# Altium integrated library NSC Switcher.IntLib: 916 symbols (part 3 of 23)
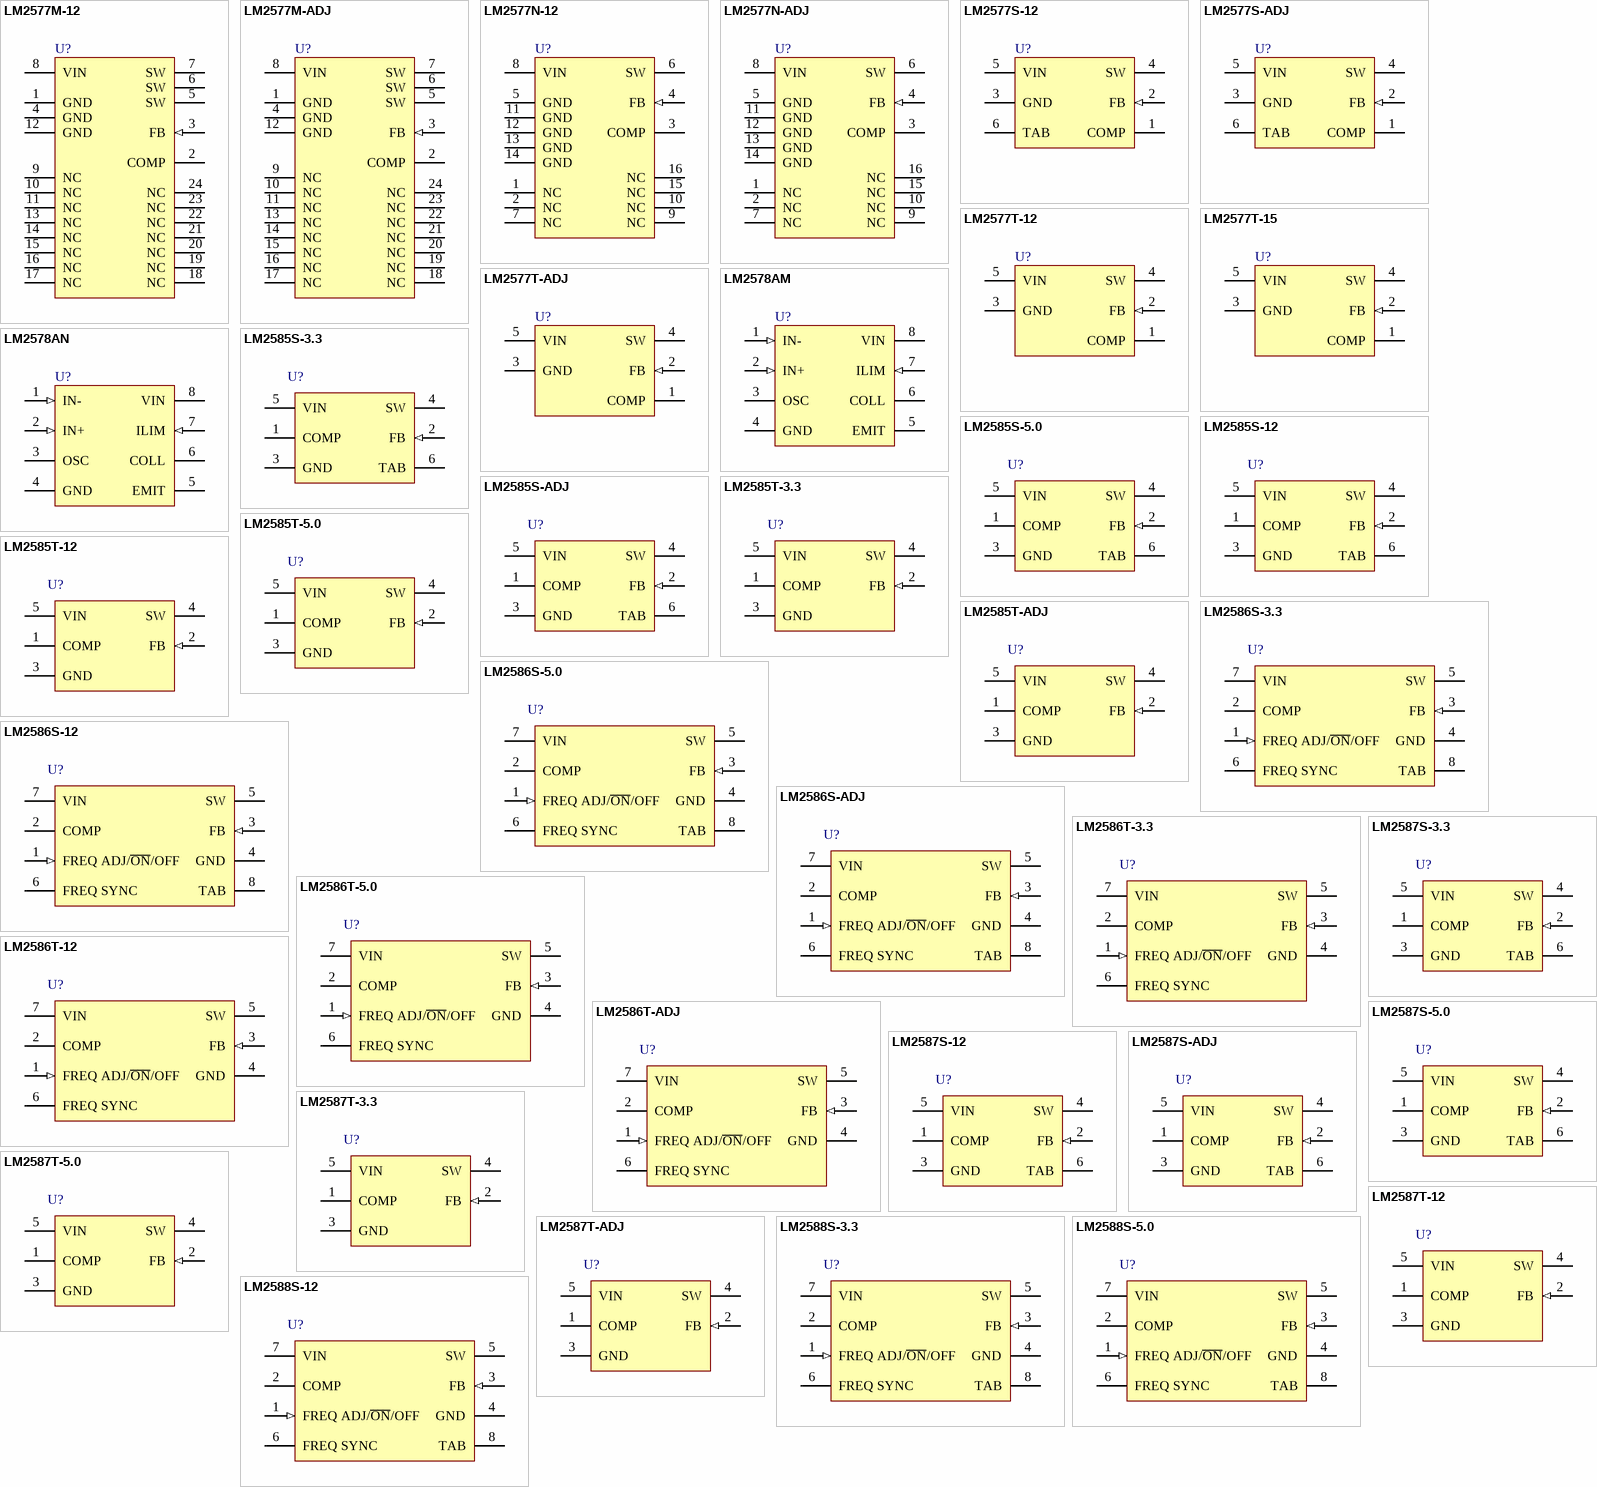
[diagram p30: symbols LM2577M-12 to LM2588S-12]

## LM2577S-ADJ
designator U?
SIMPLE SWITCHER; Step-Up Voltage Regulator; PartNumber: LM2577S-ADJ; Manufacturer: National Semiconductor; PackageTopMarking: NSUZXYTT*LM2577S*-ADJ P+; PowerWise: N; Published: 4-Dec-2008; DatasheetVersion: Apr-2005; PackageVersion: revD, Apr-2005; PackageReference: TS5B; Publisher: Altium Limited; PackageDescription: TO-263, Molded, .400 x .390 x .180in, 5 Lead, .067in Pitch, Surface Mount; CompType: Switcher; RoHS: O; PinCount: 5; DigiKeyPartNumber: LM2577S-ADJ-ND; Code_JEDEC: MO-169-AB; ComponentLink1Description: LM2577 Datasheet; ComponentLink1URL: http://www.national.com/ds/LM/LM2577.pdf; ComponentLink2Description: LM2577 Web Page; ComponentLink2URL: http://www.national.com/pf/LM/LM2577.html; ComponentLink3Description: TS5B Package Page; ComponentLink3URL: http://www.national.com/packaging/folders/ts5b.html
footprint TS5B_N (D2-PAK, 6-Leads, Body 8.6x10.2mm, Pitch 1.7mm, Lead Span 14.1mm, IPC Medium Density)
footprint TS5B_L (D2-PAK, 6-Leads, Body 8.6x10.2mm, Pitch 1.7mm, Lead Span 14.1mm, IPC High Density)
footprint TS5B_M (D2-PAK, 6-Leads, Body 8.6x10.2mm, Pitch 1.7mm, Lead Span 14.1mm, IPC Low Density)
footprint TS5B_M (D2-PAK, 6-Leads, Body 8.6x10.2mm, Pitch 1.7mm, Lead Span 14.1mm, IPC Low Density)
pins: 1 COMP, 2 FB (in), 3 GND (power), 4 SW (power), 5 VIN (power), 6 TAB (power)

## LM2577T-12
designator U?
SIMPLE SWITCHER; Step-Up Voltage Regulator; PartNumber: LM2577T-12; Manufacturer: National Semiconductor; PackageTopMarking: NSUZXYTT*LM2577T-12*P+; PowerWise: N; Published: 4-Dec-2008; DatasheetVersion: Apr-2005; PackageVersion: revJ, Jan-1992; PackageReference: T05A; Publisher: Altium Limited; PackageDescription: TO-220, Molded, 5 Lead, Straight; CompType: Switcher; RoHS: Y; PinCount: 5; DigiKeyPartNumber: LM2577T-12-ND; Code_JEDEC: TO-220-AB; ComponentLink1Description: LM2577 Datasheet; ComponentLink1URL: http://www.national.com/ds/LM/LM2577.pdf; ComponentLink2Description: LM2577 Web Page; ComponentLink2URL: http://www.national.com/pf/LM/LM2577.html; ComponentLink3Description: T05A Package Page; ComponentLink3URL: http://www.national.com/packaging/folders/t05a.html
footprint T05A (TO, Thru-Hole, Vertical, Heatsink Mounted; 5 In-Line Leads; Pitch 1.70 mm)
pins: 1 COMP, 2 FB (in), 3 GND (power), 4 SW (power), 5 VIN (power)

## LM2577T-15
designator U?
SIMPLE SWITCHER; Step-Up Voltage Regulator; PartNumber: LM2577T-15; Manufacturer: National Semiconductor; PackageTopMarking: NSUZXYTT*LM2577T-15*P+; PowerWise: N; Published: 4-Dec-2008; DatasheetVersion: Apr-2005; PackageVersion: revJ, Jan-1992; PackageReference: T05A; Publisher: Altium Limited; PackageDescription: TO-220, Molded, 5 Lead, Straight; CompType: Switcher; RoHS: O; PinCount: 5; DigiKeyPartNumber: LM2577T-15-ND; Code_JEDEC: TO-220-AB; ComponentLink1Description: LM2577 Datasheet; ComponentLink1URL: http://www.national.com/ds/LM/LM2577.pdf; ComponentLink2Description: LM2577 Web Page; ComponentLink2URL: http://www.national.com/pf/LM/LM2577.html; ComponentLink3Description: T05A Package Page; ComponentLink3URL: http://www.national.com/packaging/folders/t05a.html
footprint T05A (TO, Thru-Hole, Vertical, Heatsink Mounted; 5 In-Line Leads; Pitch 1.70 mm)
pins: 1 COMP, 2 FB (in), 3 GND (power), 4 SW (power), 5 VIN (power)

## LM2577T-ADJ
designator U?
SIMPLE SWITCHER; Step-Up Voltage Regulator; PartNumber: LM2577T-ADJ; Manufacturer: National Semiconductor; PackageTopMarking: NSUZXYTT*LM2577T*-ADJ*P+; PowerWise: N; Published: 4-Dec-2008; DatasheetVersion: Apr-2005; PackageVersion: revJ, Jan-1992; PackageReference: T05A; Publisher: Altium Limited; PackageDescription: TO-220, Molded, 5 Lead, Straight; CompType: Switcher; RoHS: O; PinCount: 5; DigiKeyPartNumber: LM2577T-ADJ-ND; Code_JEDEC: TO-220-AB; ComponentLink1Description: LM2577 Datasheet; ComponentLink1URL: http://www.national.com/ds/LM/LM2577.pdf; ComponentLink2Description: LM2577 Web Page; ComponentLink2URL: http://www.national.com/pf/LM/LM2577.html; ComponentLink3Description: T05A Package Page; ComponentLink3URL: http://www.national.com/packaging/folders/t05a.html
footprint T05A (TO, Thru-Hole, Vertical, Heatsink Mounted; 5 In-Line Leads; Pitch 1.70 mm)
pins: 1 COMP, 2 FB (in), 3 GND (power), 4 SW (power), 5 VIN (power)

## LM2578AM
designator U?
Switching Regulator; PartNumber: LM2578AM; Manufacturer: National Semiconductor; CompType: Switcher; PackageTopMarking: NSZXTT*2578*AM; PowerWise: N; Published: 4-Dec-2008; DatasheetVersion: Feb-2005; PackageVersion: revL, Sep-2006; PackageReference: M08A; Publisher: Altium Limited; PackageDescription: SOIC Narrow, 4.9 x 3.9 x 1.45mm, 8 Lead, 1.27mm Pitch; RoHS: O; PinCount: 8; DigiKeyPartNumber: LM2578AM-ND; Code_JEDEC: MS-012-AA; Code_IPC: SOIC127P600-8; ComponentLink1Description: LM2578A Datasheet; ComponentLink1URL: http://www.national.com/ds/LM/LM2578A.pdf; ComponentLink2Description: LM2578A Web Page; ComponentLink2URL: http://www.national.com/pf/LM/LM2578A.html; ComponentLink3Description: M08A Package Page; ComponentLink3URL: http://www.national.com/packaging/folders/m08a.html
footprint M08A_N (SOIC, 8-Leads, Body 4.9x3.9mm, Pitch 1.27mm, IPC Medium Density)
footprint M08A_L (SOIC, 8-Leads, Body 4.9x3.9mm, Pitch 1.27mm, IPC High Density)
footprint M08A_M (SOIC, 8-Leads, Body 4.9x3.9mm, Pitch 1.27mm, IPC Low Density)
pins: 1 IN- (in), 2 IN+ (in), 3 OSC, 4 GND (power), 5 EMIT (oe), 6 COLL (oc), 7 ILIM (in), 8 VIN (power)

## LM2578AN
designator U?
Switching Regulator; PartNumber: LM2578AN; Manufacturer: National Semiconductor; CompType: Switcher; PackageTopMarking: NSUZXYTT*LM2578AN; PowerWise: N; Published: 4-Dec-2008; DatasheetVersion: Feb-2005; PackageVersion: revG, May-2006; PackageReference: N08E; Publisher: Altium Limited; PackageDescription: MDIP, .365 x .250 x .130in, 8 Lead, .100in Pitch; RoHS: O; PinCount: 8; DigiKeyPartNumber: LM2578AN-ND; Code_JEDEC: MS-001-BA; ComponentLink1Description: LM2578A Datasheet; ComponentLink1URL: http://www.national.com/ds/LM/LM2578A.pdf; ComponentLink2Description: LM2578A Web Page; ComponentLink2URL: http://www.national.com/pf/LM/LM2578A.html; ComponentLink3Description: N08E Package Page; ComponentLink3URL: http://www.national.com/packaging/folders/n08e.html
footprint N08E (DIP, 8-Leads, Row Spacing 7.62mm, Pitch 2.54mm, Body 9.91x6.35mm)
pins: 1 IN- (in), 2 IN+ (in), 3 OSC, 4 GND (power), 5 EMIT (oe), 6 COLL (oc), 7 ILIM (in), 8 VIN (power)

## LM2585S-3.3
designator U?
SIMPLE SWITCHER 3-Amp Flyback Regulator; PartNumber: LM2585S-3.3; Manufacturer: National Semiconductor; PackageTopMarking: NSUZXYTT*LM2585S*-3.3 P+; PowerWise: N; Published: 4-Dec-2008; DatasheetVersion: Feb-2007; PackageVersion: revD, Apr-2005; PackageReference: TS5B; Publisher: Altium Limited; PackageDescription: TO-263, Molded, .400 x .390 x .180in, 5 Lead, .067in Pitch, Surface Mount; CompType: Switcher; RoHS: Y; PinCount: 5; DigiKeyPartNumber: LM2585S-3.3-ND; Code_JEDEC: MO-169-AB; ComponentLink1Description: LM2585 Datasheet; ComponentLink1URL: http://www.national.com/ds/LM/LM2585.pdf; ComponentLink2Description: LM2585 Web Page; ComponentLink2URL: http://www.national.com/pf/LM/LM2585.html; ComponentLink3Description: TS5B Package Page; ComponentLink3URL: http://www.national.com/packaging/folders/ts5b.html
footprint TS5B_N (D2-PAK, 6-Leads, Body 8.6x10.2mm, Pitch 1.7mm, Lead Span 14.1mm, IPC Medium Density)
footprint TS5B_L (D2-PAK, 6-Leads, Body 8.6x10.2mm, Pitch 1.7mm, Lead Span 14.1mm, IPC High Density)
footprint TS5B_M (D2-PAK, 6-Leads, Body 8.6x10.2mm, Pitch 1.7mm, Lead Span 14.1mm, IPC Low Density)
footprint TS5B_M (D2-PAK, 6-Leads, Body 8.6x10.2mm, Pitch 1.7mm, Lead Span 14.1mm, IPC Low Density)
pins: 1 COMP, 2 FB (in), 3 GND (power), 4 SW (power), 5 VIN (power), 6 TAB

## LM2585S-5.0
designator U?
SIMPLE SWITCHER 3-Amp Flyback Regulator; PartNumber: LM2585S-5.0; Manufacturer: National Semiconductor; PackageTopMarking: NSUZXYTT*LM2585S*-5.0 P+; PowerWise: N; Published: 4-Dec-2008; DatasheetVersion: Feb-2007; PackageVersion: revD, Apr-2005; PackageReference: TS5B; Publisher: Altium Limited; PackageDescription: TO-263, Molded, .400 x .390 x .180in, 5 Lead, .067in Pitch, Surface Mount; CompType: Switcher; RoHS: Y; PinCount: 5; DigiKeyPartNumber: LM2585S-5.0-ND; Code_JEDEC: MO-169-AB; ComponentLink1Description: LM2585 Datasheet; ComponentLink1URL: http://www.national.com/ds/LM/LM2585.pdf; ComponentLink2Description: LM2585 Web Page; ComponentLink2URL: http://www.national.com/pf/LM/LM2585.html; ComponentLink3Description: TS5B Package Page; ComponentLink3URL: http://www.national.com/packaging/folders/ts5b.html
footprint TS5B_N (D2-PAK, 6-Leads, Body 8.6x10.2mm, Pitch 1.7mm, Lead Span 14.1mm, IPC Medium Density)
footprint TS5B_L (D2-PAK, 6-Leads, Body 8.6x10.2mm, Pitch 1.7mm, Lead Span 14.1mm, IPC High Density)
footprint TS5B_M (D2-PAK, 6-Leads, Body 8.6x10.2mm, Pitch 1.7mm, Lead Span 14.1mm, IPC Low Density)
footprint TS5B_M (D2-PAK, 6-Leads, Body 8.6x10.2mm, Pitch 1.7mm, Lead Span 14.1mm, IPC Low Density)
pins: 1 COMP, 2 FB (in), 3 GND (power), 4 SW (power), 5 VIN (power), 6 TAB

## LM2585S-12
designator U?
SIMPLE SWITCHER 3-Amp Flyback Regulator; PartNumber: LM2585S-12; Manufacturer: National Semiconductor; PackageTopMarking: NSUZXYTT*LM2585S*-12 P+; PowerWise: N; Published: 4-Dec-2008; DatasheetVersion: Feb-2007; PackageVersion: revD, Apr-2005; PackageReference: TS5B; Publisher: Altium Limited; PackageDescription: TO-263, Molded, .400 x .390 x .180in, 5 Lead, .067in Pitch, Surface Mount; CompType: Switcher; RoHS: O; PinCount: 5; DigiKeyPartNumber: LM2585S-12-ND; Code_JEDEC: MO-169-AB; ComponentLink1Description: LM2585 Datasheet; ComponentLink1URL: http://www.national.com/ds/LM/LM2585.pdf; ComponentLink2Description: LM2585 Web Page; ComponentLink2URL: http://www.national.com/pf/LM/LM2585.html; ComponentLink3Description: TS5B Package Page; ComponentLink3URL: http://www.national.com/packaging/folders/ts5b.html
footprint TS5B_N (D2-PAK, 6-Leads, Body 8.6x10.2mm, Pitch 1.7mm, Lead Span 14.1mm, IPC Medium Density)
footprint TS5B_L (D2-PAK, 6-Leads, Body 8.6x10.2mm, Pitch 1.7mm, Lead Span 14.1mm, IPC High Density)
footprint TS5B_M (D2-PAK, 6-Leads, Body 8.6x10.2mm, Pitch 1.7mm, Lead Span 14.1mm, IPC Low Density)
footprint TS5B_M (D2-PAK, 6-Leads, Body 8.6x10.2mm, Pitch 1.7mm, Lead Span 14.1mm, IPC Low Density)
pins: 1 COMP, 2 FB (in), 3 GND (power), 4 SW (power), 5 VIN (power), 6 TAB

## LM2585S-ADJ
designator U?
SIMPLE SWITCHER 3-Amp Flyback Regulator; PartNumber: LM2585S-ADJ; Manufacturer: National Semiconductor; PackageTopMarking: NSUZXYTT*LM2585S*-ADJ P+; PowerWise: N; Published: 4-Dec-2008; DatasheetVersion: Feb-2007; PackageVersion: revD, Apr-2005; PackageReference: TS5B; Publisher: Altium Limited; PackageDescription: TO-263, Molded, .400 x .390 x .180in, 5 Lead, .067in Pitch, Surface Mount; CompType: Switcher; RoHS: O; PinCount: 5; DigiKeyPartNumber: LM2585S-ADJ-ND; Code_JEDEC: MO-169-AB; ComponentLink1Description: LM2585 Datasheet; ComponentLink1URL: http://www.national.com/ds/LM/LM2585.pdf; ComponentLink2Description: LM2585 Web Page; ComponentLink2URL: http://www.national.com/pf/LM/LM2585.html; ComponentLink3Description: TS5B Package Page; ComponentLink3URL: http://www.national.com/packaging/folders/ts5b.html
footprint TS5B_N (D2-PAK, 6-Leads, Body 8.6x10.2mm, Pitch 1.7mm, Lead Span 14.1mm, IPC Medium Density)
footprint TS5B_L (D2-PAK, 6-Leads, Body 8.6x10.2mm, Pitch 1.7mm, Lead Span 14.1mm, IPC High Density)
footprint TS5B_M (D2-PAK, 6-Leads, Body 8.6x10.2mm, Pitch 1.7mm, Lead Span 14.1mm, IPC Low Density)
footprint TS5B_M (D2-PAK, 6-Leads, Body 8.6x10.2mm, Pitch 1.7mm, Lead Span 14.1mm, IPC Low Density)
pins: 1 COMP, 2 FB (in), 3 GND (power), 4 SW (power), 5 VIN (power), 6 TAB

## LM2585T-3.3
designator U?
SIMPLE SWITCHER 3-Amp Flyback Regulator; PartNumber: LM2585T-3.3; Manufacturer: National Semiconductor; PackageTopMarking: NSUZXYTT*LM2585T*-3.3 P+; PowerWise: N; Published: 4-Dec-2008; DatasheetVersion: Feb-2007; PackageVersion: revA, Oct-1989; PackageReference: T05D; Publisher: Altium Limited; PackageDescription: TO-220, Molded, Stagger Bend, 5 Lead; CompType: Switcher; RoHS: Y; PinCount: 5; DigiKeyPartNumber: LM2585T-3.3-ND; ComponentLink1Description: LM2585 Datasheet; ComponentLink1URL: http://www.national.com/ds/LM/LM2585.pdf; ComponentLink2Description: LM2585 Web Page; ComponentLink2URL: http://www.national.com/pf/LM/LM2585.html; ComponentLink3Description: T05D Package Page; ComponentLink3URL: http://www.national.com/packaging/folders/t05d.html
footprint T05D (TO, Thru-Hole, Vertical, Heatsink Mounted; 5 Bent Staggered Leads; Pitch 1.7 mm)
pins: 1 COMP, 2 FB (in), 3 GND (power), 4 SW (power), 5 VIN (power)

## LM2585T-5.0
designator U?
SIMPLE SWITCHER 3-Amp Flyback Regulator; PartNumber: LM2585T-5.0; Manufacturer: National Semiconductor; PackageTopMarking: NSUZXYTT*LM2585T*-5.0 P+; PowerWise: N; Published: 4-Dec-2008; DatasheetVersion: Feb-2007; PackageVersion: revA, Oct-1989; PackageReference: T05D; Publisher: Altium Limited; PackageDescription: TO-220, Molded, Stagger Bend, 5 Lead; CompType: Switcher; RoHS: O; PinCount: 5; DigiKeyPartNumber: LM2585T-5.0-ND; ComponentLink1Description: LM2585 Datasheet; ComponentLink1URL: http://www.national.com/ds/LM/LM2585.pdf; ComponentLink2Description: LM2585 Web Page; ComponentLink2URL: http://www.national.com/pf/LM/LM2585.html; ComponentLink3Description: T05D Package Page; ComponentLink3URL: http://www.national.com/packaging/folders/t05d.html
footprint T05D (TO, Thru-Hole, Vertical, Heatsink Mounted; 5 Bent Staggered Leads; Pitch 1.7 mm)
pins: 1 COMP, 2 FB (in), 3 GND (power), 4 SW (power), 5 VIN (power)

## LM2585T-12
designator U?
SIMPLE SWITCHER 3-Amp Flyback Regulator; PartNumber: LM2585T-12; Manufacturer: National Semiconductor; PackageTopMarking: NSUZXYTT*LM2585T*-12 P+; PowerWise: N; Published: 4-Dec-2008; DatasheetVersion: Feb-2007; PackageVersion: revA, Oct-1989; PackageReference: T05D; Publisher: Altium Limited; PackageDescription: TO-220, Molded, Stagger Bend, 5 Lead; CompType: Switcher; RoHS: Y; PinCount: 5; DigiKeyPartNumber: LM2585T-12-ND; ComponentLink1Description: LM2585 Datasheet; ComponentLink1URL: http://www.national.com/ds/LM/LM2585.pdf; ComponentLink2Description: LM2585 Web Page; ComponentLink2URL: http://www.national.com/pf/LM/LM2585.html; ComponentLink3Description: T05D Package Page; ComponentLink3URL: http://www.national.com/packaging/folders/t05d.html
footprint T05D (TO, Thru-Hole, Vertical, Heatsink Mounted; 5 Bent Staggered Leads; Pitch 1.7 mm)
pins: 1 COMP, 2 FB (in), 3 GND (power), 4 SW (power), 5 VIN (power)

## LM2585T-ADJ
designator U?
SIMPLE SWITCHER 3-Amp Flyback Regulator; PartNumber: LM2585T-ADJ; Manufacturer: National Semiconductor; PackageTopMarking: NSUZXYTT*LM2585T*-ADJ P+; PowerWise: N; Published: 4-Dec-2008; DatasheetVersion: Feb-2007; PackageVersion: revA, Oct-1989; PackageReference: T05D; Publisher: Altium Limited; PackageDescription: TO-220, Molded, Stagger Bend, 5 Lead; CompType: Switcher; RoHS: O; PinCount: 5; DigiKeyPartNumber: LM2585T-ADJ-ND; ComponentLink1Description: LM2585 Datasheet; ComponentLink1URL: http://www.national.com/ds/LM/LM2585.pdf; ComponentLink2Description: LM2585 Web Page; ComponentLink2URL: http://www.national.com/pf/LM/LM2585.html; ComponentLink3Description: T05D Package Page; ComponentLink3URL: http://www.national.com/packaging/folders/t05d.html
footprint T05D (TO, Thru-Hole, Vertical, Heatsink Mounted; 5 Bent Staggered Leads; Pitch 1.7 mm)
pins: 1 COMP, 2 FB (in), 3 GND (power), 4 SW (power), 5 VIN (power)

## LM2586S-3.3
designator U?
SIMPLE SWITCHER 3-Amp Flyback Regulator; PartNumber: LM2586S-3.3; Manufacturer: National Semiconductor; PackageTopMarking: NSUZXYTT*LM2586S*-3.3 P+; PowerWise: N; Published: 4-Dec-2008; DatasheetVersion: Jul-2005; PackageVersion: revE, Jul-2003; PackageReference: TS7B; Publisher: Altium Limited; PackageDescription: TO-263, Molded, .400 x .390 x .180in Body, 7 Lead, .050in Pitch, Surface Mount; CompType: Switcher; RoHS: Y; PinCount: 7; DigiKeyPartNumber: LM2586S-3.3-ND; Code_JEDEC: MO-169-AC; ComponentLink1Description: LM2586 Datasheet; ComponentLink1URL: http://www.national.com/ds/LM/LM2586.pdf; ComponentLink2Description: LM2586 Web Page; ComponentLink2URL: http://www.national.com/pf/LM/LM2586.html; ComponentLink3Description: TS7B Package Page; ComponentLink3URL: http://www.national.com/packaging/folders/ts7b.html
footprint TS7B_N (D2-PAK, 8-Leads, Body 8.6x10.2mm, Pitch 1.27mm, Lead Span 14.1mm, IPC Medium Density)
footprint TS7B_L (D2-PAK, 8-Leads, Body 8.6x10.2mm, Pitch 1.27mm, Lead Span 14.1mm, IPC High Density)
footprint TS7B_M (D2-PAK, 8-Leads, Body 8.6x10.2mm, Pitch 1.27mm, Lead Span 14.1mm, IPC Low Density)
footprint TS7B_M (D2-PAK, 8-Leads, Body 8.6x10.2mm, Pitch 1.27mm, Lead Span 14.1mm, IPC Low Density)
pins: 1 FREQ ADJ/~{ON}/OFF (in), 2 COMP, 3 FB (in), 4 GND (power), 5 SW (power), 6 FREQ SYNC, 7 VIN (power), 8 TAB

## LM2586S-5.0
designator U?
SIMPLE SWITCHER 3-Amp Flyback Regulator; PartNumber: LM2586S-5.0; Manufacturer: National Semiconductor; PackageTopMarking: NSUZXYTT*LM2586S*-5.0 P+; PowerWise: N; Published: 4-Dec-2008; DatasheetVersion: Jul-2005; PackageVersion: revE, Jul-2003; PackageReference: TS7B; Publisher: Altium Limited; PackageDescription: TO-263, Molded, .400 x .390 x .180in Body, 7 Lead, .050in Pitch, Surface Mount; CompType: Switcher; RoHS: O; PinCount: 7; DigiKeyPartNumber: LM2586S-5.0-ND; Code_JEDEC: MO-169-AC; ComponentLink1Description: LM2586 Datasheet; ComponentLink1URL: http://www.national.com/ds/LM/LM2586.pdf; ComponentLink2Description: LM2586 Web Page; ComponentLink2URL: http://www.national.com/pf/LM/LM2586.html; ComponentLink3Description: TS7B Package Page; ComponentLink3URL: http://www.national.com/packaging/folders/ts7b.html
footprint TS7B_N (D2-PAK, 8-Leads, Body 8.6x10.2mm, Pitch 1.27mm, Lead Span 14.1mm, IPC Medium Density)
footprint TS7B_L (D2-PAK, 8-Leads, Body 8.6x10.2mm, Pitch 1.27mm, Lead Span 14.1mm, IPC High Density)
footprint TS7B_M (D2-PAK, 8-Leads, Body 8.6x10.2mm, Pitch 1.27mm, Lead Span 14.1mm, IPC Low Density)
footprint TS7B_M (D2-PAK, 8-Leads, Body 8.6x10.2mm, Pitch 1.27mm, Lead Span 14.1mm, IPC Low Density)
pins: 1 FREQ ADJ/~{ON}/OFF (in), 2 COMP, 3 FB (in), 4 GND (power), 5 SW (power), 6 FREQ SYNC, 7 VIN (power), 8 TAB

## LM2586S-12
designator U?
SIMPLE SWITCHER 3-Amp Flyback Regulator; PartNumber: LM2586S-12; Manufacturer: National Semiconductor; PackageTopMarking: NSUZXYTT*LM2586S*-12 P+; PowerWise: N; Published: 4-Dec-2008; DatasheetVersion: Jul-2005; PackageVersion: revE, Jul-2003; PackageReference: TS7B; Publisher: Altium Limited; PackageDescription: TO-263, Molded, .400 x .390 x .180in Body, 7 Lead, .050in Pitch, Surface Mount; CompType: Switcher; RoHS: O; PinCount: 7; DigiKeyPartNumber: LM2586S-12-ND; Code_JEDEC: MO-169-AC; ComponentLink1Description: LM2586 Datasheet; ComponentLink1URL: http://www.national.com/ds/LM/LM2586.pdf; ComponentLink2Description: LM2586 Web Page; ComponentLink2URL: http://www.national.com/pf/LM/LM2586.html; ComponentLink3Description: TS7B Package Page; ComponentLink3URL: http://www.national.com/packaging/folders/ts7b.html
footprint TS7B_N (D2-PAK, 8-Leads, Body 8.6x10.2mm, Pitch 1.27mm, Lead Span 14.1mm, IPC Medium Density)
footprint TS7B_L (D2-PAK, 8-Leads, Body 8.6x10.2mm, Pitch 1.27mm, Lead Span 14.1mm, IPC High Density)
footprint TS7B_M (D2-PAK, 8-Leads, Body 8.6x10.2mm, Pitch 1.27mm, Lead Span 14.1mm, IPC Low Density)
footprint TS7B_M (D2-PAK, 8-Leads, Body 8.6x10.2mm, Pitch 1.27mm, Lead Span 14.1mm, IPC Low Density)
pins: 1 FREQ ADJ/~{ON}/OFF (in), 2 COMP, 3 FB (in), 4 GND (power), 5 SW (power), 6 FREQ SYNC, 7 VIN (power), 8 TAB

## LM2586S-ADJ
designator U?
SIMPLE SWITCHER 3-Amp Flyback Regulator; PartNumber: LM2586S-ADJ; Manufacturer: National Semiconductor; PackageTopMarking: NSUZXYTT*LM2586S*-ADJ P+; PowerWise: N; Published: 4-Dec-2008; DatasheetVersion: Jul-2005; PackageVersion: revE, Jul-2003; PackageReference: TS7B; Publisher: Altium Limited; PackageDescription: TO-263, Molded, .400 x .390 x .180in Body, 7 Lead, .050in Pitch, Surface Mount; CompType: Switcher; RoHS: O; PinCount: 7; DigiKeyPartNumber: LM2586S-ADJ-ND; Code_JEDEC: MO-169-AC; ComponentLink1Description: LM2586 Datasheet; ComponentLink1URL: http://www.national.com/ds/LM/LM2586.pdf; ComponentLink2Description: LM2586 Web Page; ComponentLink2URL: http://www.national.com/pf/LM/LM2586.html; ComponentLink3Description: TS7B Package Page; ComponentLink3URL: http://www.national.com/packaging/folders/ts7b.html
footprint TS7B_N (D2-PAK, 8-Leads, Body 8.6x10.2mm, Pitch 1.27mm, Lead Span 14.1mm, IPC Medium Density)
footprint TS7B_L (D2-PAK, 8-Leads, Body 8.6x10.2mm, Pitch 1.27mm, Lead Span 14.1mm, IPC High Density)
footprint TS7B_M (D2-PAK, 8-Leads, Body 8.6x10.2mm, Pitch 1.27mm, Lead Span 14.1mm, IPC Low Density)
footprint TS7B_M (D2-PAK, 8-Leads, Body 8.6x10.2mm, Pitch 1.27mm, Lead Span 14.1mm, IPC Low Density)
pins: 1 FREQ ADJ/~{ON}/OFF (in), 2 COMP, 3 FB (in), 4 GND (power), 5 SW (power), 6 FREQ SYNC, 7 VIN (power), 8 TAB

## LM2586T-3.3
designator U?
SIMPLE SWITCHER 3-Amp Flyback Regulator; PartNumber: LM2586T-3.3; Manufacturer: National Semiconductor; PackageTopMarking: NSUZXYTT*LM2586T*-3.3 P+; PowerWise: N; Published: 4-Dec-2008; DatasheetVersion: Jul-2005; PackageVersion: revC, Apr-1999; PackageReference: TA07B; Publisher: Altium Limited; PackageDescription: TO-220, Molded, .400 x .590 x .180in Body, 7 Lead, .050in Pitch, Staggered; CompType: Switcher; RoHS: Y; PinCount: 7; DigiKeyPartNumber: LM2586T-3.3-ND; Code_JEDEC: TO-220-AB; ComponentLink1Description: LM2586 Datasheet; ComponentLink1URL: http://www.national.com/ds/LM/LM2586.pdf; ComponentLink2Description: LM2586 Web Page; ComponentLink2URL: http://www.national.com/pf/LM/LM2586.html; ComponentLink3Description: TA07B Package Page; ComponentLink3URL: http://www.national.com/packaging/folders/ta07b.html
footprint TA07B (TO, Thru-Hole, Vertical, Heatsink Mounted; 7 Bent Staggered Leads; Pitch 1.27 mm)
pins: 1 FREQ ADJ/~{ON}/OFF (in), 2 COMP, 3 FB (in), 4 GND (power), 5 SW (power), 6 FREQ SYNC, 7 VIN (power)

## LM2586T-5.0
designator U?
SIMPLE SWITCHER 3-Amp Flyback Regulator; PartNumber: LM2586T-5.0; Manufacturer: National Semiconductor; PackageTopMarking: NSUZXYTT*LM2586T*-5.0 P+; PowerWise: N; Published: 4-Dec-2008; DatasheetVersion: Jul-2005; PackageVersion: revC, Apr-1999; PackageReference: TA07B; Publisher: Altium Limited; PackageDescription: TO-220, Molded, .400 x .590 x .180in Body, 7 Lead, .050in Pitch, Staggered; CompType: Switcher; RoHS: Y; PinCount: 7; DigiKeyPartNumber: LM2586T-5.0-ND; Code_JEDEC: TO-220-AB; ComponentLink1Description: LM2586 Datasheet; ComponentLink1URL: http://www.national.com/ds/LM/LM2586.pdf; ComponentLink2Description: LM2586 Web Page; ComponentLink2URL: http://www.national.com/pf/LM/LM2586.html; ComponentLink3Description: TA07B Package Page; ComponentLink3URL: http://www.national.com/packaging/folders/ta07b.html
footprint TA07B (TO, Thru-Hole, Vertical, Heatsink Mounted; 7 Bent Staggered Leads; Pitch 1.27 mm)
pins: 1 FREQ ADJ/~{ON}/OFF (in), 2 COMP, 3 FB (in), 4 GND (power), 5 SW (power), 6 FREQ SYNC, 7 VIN (power)

## LM2586T-12
designator U?
SIMPLE SWITCHER 3-Amp Flyback Regulator; PartNumber: LM2586T-12; Manufacturer: National Semiconductor; PackageTopMarking: NSUZXYTT*LM2586T*-12 P+; Published: 4-Dec-2008; DatasheetVersion: Jul-2005; PackageVersion: revC, Apr-1999; PackageReference: TA07B; Publisher: Altium Limited; PackageDescription: TO-220, Molded, .400 x .590 x .180in Body, 7 Lead, .050in Pitch, Staggered; CompType: Switcher; RoHS: Y; PinCount: 7; DigiKeyPartNumber: LM2586T-12-ND; Code_JEDEC: TO-220-AB; ComponentLink1Description: LM2586 Datasheet; ComponentLink1URL: http://www.national.com/ds/LM/LM2586.pdf; ComponentLink2Description: LM2586 Web Page; ComponentLink2URL: http://www.national.com/pf/LM/LM2586.html; ComponentLink3Description: TA07B Package Page; ComponentLink3URL: http://www.national.com/packaging/folders/ta07b.html
footprint TA07B (TO, Thru-Hole, Vertical, Heatsink Mounted; 7 Bent Staggered Leads; Pitch 1.27 mm)
pins: 1 FREQ ADJ/~{ON}/OFF (in), 2 COMP, 3 FB (in), 4 GND (power), 5 SW (power), 6 FREQ SYNC, 7 VIN (power)

## LM2586T-ADJ
designator U?
SIMPLE SWITCHER 3-Amp Flyback Regulator; PartNumber: LM2586T-ADJ; Manufacturer: National Semiconductor; PackageTopMarking: NSUZXYTT*LM2586T*-ADJ P+; PowerWise: N; Published: 4-Dec-2008; DatasheetVersion: Jul-2005; PackageVersion: revC, Apr-1999; PackageReference: TA07B; Publisher: Altium Limited; PackageDescription: TO-220, Molded, .400 x .590 x .180in Body, 7 Lead, .050in Pitch, Staggered; CompType: Switcher; RoHS: O; PinCount: 7; DigiKeyPartNumber: LM2586T-ADJ-ND; Code_JEDEC: TO-220-AB; ComponentLink1Description: LM2586 Datasheet; ComponentLink1URL: http://www.national.com/ds/LM/LM2586.pdf; ComponentLink2Description: LM2586 Web Page; ComponentLink2URL: http://www.national.com/pf/LM/LM2586.html; ComponentLink3Description: TA07B Package Page; ComponentLink3URL: http://www.national.com/packaging/folders/ta07b.html
footprint TA07B (TO, Thru-Hole, Vertical, Heatsink Mounted; 7 Bent Staggered Leads; Pitch 1.27 mm)
pins: 1 FREQ ADJ/~{ON}/OFF (in), 2 COMP, 3 FB (in), 4 GND (power), 5 SW (power), 6 FREQ SYNC, 7 VIN (power)

## LM2587S-3.3
designator U?
SIMPLE SWITCHER; 5A Flyback Regulator; PartNumber: LM2587S-3.3; Manufacturer: National Semiconductor; PackageTopMarking: NSUZXYTT*LM2587S*-3.3 P+; PowerWise: N; Published: 4-Dec-2008; DatasheetVersion: Feb-2004; PackageVersion: revD, Apr-2005; PackageReference: TS5B; Publisher: Altium Limited; PackageDescription: TO-263, Molded, .400 x .390 x .180in, 5 Lead, .067in Pitch, Surface Mount; CompType: Switcher; RoHS: Y; PinCount: 5; DigiKeyPartNumber: LM2587S-3.3-ND; Code_JEDEC: MO-169-AB; ComponentLink1Description: LM2587 Datasheet; ComponentLink1URL: http://www.national.com/ds/LM/LM2587.pdf; ComponentLink2Description: LM2587 Web Page; ComponentLink2URL: http://www.national.com/pf/LM/LM2587.html; ComponentLink3Description: TS5B Package Page; ComponentLink3URL: http://www.national.com/packaging/folders/ts5b.html
footprint TS5B_N (D2-PAK, 6-Leads, Body 8.6x10.2mm, Pitch 1.7mm, Lead Span 14.1mm, IPC Medium Density)
footprint TS5B_L (D2-PAK, 6-Leads, Body 8.6x10.2mm, Pitch 1.7mm, Lead Span 14.1mm, IPC High Density)
footprint TS5B_M (D2-PAK, 6-Leads, Body 8.6x10.2mm, Pitch 1.7mm, Lead Span 14.1mm, IPC Low Density)
footprint TS5B_M (D2-PAK, 6-Leads, Body 8.6x10.2mm, Pitch 1.7mm, Lead Span 14.1mm, IPC Low Density)
pins: 1 COMP, 2 FB (in), 3 GND (power), 4 SW (power), 5 VIN (power), 6 TAB

## LM2587S-5.0
designator U?
SIMPLE SWITCHER; 5A Flyback Regulator; PartNumber: LM2587S-5.0; Manufacturer: National Semiconductor; PackageTopMarking: NSUZXYTT*LM2587S*-5.0 P+; PowerWise: N; Published: 4-Dec-2008; DatasheetVersion: Feb-2004; PackageVersion: revD, Apr-2005; PackageReference: TS5B; Publisher: Altium Limited; PackageDescription: TO-263, Molded, .400 x .390 x .180in, 5 Lead, .067in Pitch, Surface Mount; CompType: Switcher; RoHS: O; PinCount: 5; DigiKeyPartNumber: LM2587S-5.0-ND; Code_JEDEC: MO-169-AB; ComponentLink1Description: LM2587 Datasheet; ComponentLink1URL: http://www.national.com/ds/LM/LM2587.pdf; ComponentLink2Description: LM2587 Web Page; ComponentLink2URL: http://www.national.com/pf/LM/LM2587.html; ComponentLink3Description: TS5B Package Page; ComponentLink3URL: http://www.national.com/packaging/folders/ts5b.html
footprint TS5B_N (D2-PAK, 6-Leads, Body 8.6x10.2mm, Pitch 1.7mm, Lead Span 14.1mm, IPC Medium Density)
footprint TS5B_L (D2-PAK, 6-Leads, Body 8.6x10.2mm, Pitch 1.7mm, Lead Span 14.1mm, IPC High Density)
footprint TS5B_M (D2-PAK, 6-Leads, Body 8.6x10.2mm, Pitch 1.7mm, Lead Span 14.1mm, IPC Low Density)
footprint TS5B_M (D2-PAK, 6-Leads, Body 8.6x10.2mm, Pitch 1.7mm, Lead Span 14.1mm, IPC Low Density)
pins: 1 COMP, 2 FB (in), 3 GND (power), 4 SW (power), 5 VIN (power), 6 TAB

## LM2587S-12
designator U?
SIMPLE SWITCHER; 5A Flyback Regulator; PartNumber: LM2587S-12; Manufacturer: National Semiconductor; PackageTopMarking: NSUZXYTT*LM2587S*-12 P+; PowerWise: N; Published: 4-Dec-2008; DatasheetVersion: Feb-2004; PackageVersion: revD, Apr-2005; PackageReference: TS5B; Publisher: Altium Limited; PackageDescription: TO-263, Molded, .400 x .390 x .180in, 5 Lead, .067in Pitch, Surface Mount; CompType: Switcher; RoHS: Y; PinCount: 5; DigiKeyPartNumber: LM2587S-12-ND; Code_JEDEC: MO-169-AB; ComponentLink1Description: LM2587 Datasheet; ComponentLink1URL: http://www.national.com/ds/LM/LM2587.pdf; ComponentLink2Description: LM2587 Web Page; ComponentLink2URL: http://www.national.com/pf/LM/LM2587.html; ComponentLink3Description: TS5B Package Page; ComponentLink3URL: http://www.national.com/packaging/folders/ts5b.html
footprint TS5B_N (D2-PAK, 6-Leads, Body 8.6x10.2mm, Pitch 1.7mm, Lead Span 14.1mm, IPC Medium Density)
footprint TS5B_L (D2-PAK, 6-Leads, Body 8.6x10.2mm, Pitch 1.7mm, Lead Span 14.1mm, IPC High Density)
footprint TS5B_M (D2-PAK, 6-Leads, Body 8.6x10.2mm, Pitch 1.7mm, Lead Span 14.1mm, IPC Low Density)
footprint TS5B_M (D2-PAK, 6-Leads, Body 8.6x10.2mm, Pitch 1.7mm, Lead Span 14.1mm, IPC Low Density)
pins: 1 COMP, 2 FB (in), 3 GND (power), 4 SW (power), 5 VIN (power), 6 TAB

## LM2587S-ADJ
designator U?
SIMPLE SWITCHER; 5A Flyback Regulator; PartNumber: LM2587S-ADJ; Manufacturer: National Semiconductor; PackageTopMarking: NSUZXYTT*LM2587S*-ADJ P+; PowerWise: N; Published: 4-Dec-2008; DatasheetVersion: Feb-2004; PackageVersion: revD, Apr-2005; PackageReference: TS5B; Publisher: Altium Limited; PackageDescription: TO-263, Molded, .400 x .390 x .180in, 5 Lead, .067in Pitch, Surface Mount; CompType: Switcher; RoHS: O; PinCount: 5; DigiKeyPartNumber: LM2587S-ADJ-ND; Code_JEDEC: MO-169-AB; ComponentLink1Description: LM2587 Datasheet; ComponentLink1URL: http://www.national.com/ds/LM/LM2587.pdf; ComponentLink2Description: LM2587 Web Page; ComponentLink2URL: http://www.national.com/pf/LM/LM2587.html; ComponentLink3Description: TS5B Package Page; ComponentLink3URL: http://www.national.com/packaging/folders/ts5b.html
footprint TS5B_N (D2-PAK, 6-Leads, Body 8.6x10.2mm, Pitch 1.7mm, Lead Span 14.1mm, IPC Medium Density)
footprint TS5B_L (D2-PAK, 6-Leads, Body 8.6x10.2mm, Pitch 1.7mm, Lead Span 14.1mm, IPC High Density)
footprint TS5B_M (D2-PAK, 6-Leads, Body 8.6x10.2mm, Pitch 1.7mm, Lead Span 14.1mm, IPC Low Density)
footprint TS5B_M (D2-PAK, 6-Leads, Body 8.6x10.2mm, Pitch 1.7mm, Lead Span 14.1mm, IPC Low Density)
pins: 1 COMP, 2 FB (in), 3 GND (power), 4 SW (power), 5 VIN (power), 6 TAB

## LM2587T-3.3
designator U?
SIMPLE SWITCHER; 5A Flyback Regulator; PartNumber: LM2587T-3.3; Manufacturer: National Semiconductor; PackageTopMarking: NSUZXYTT*LM2587T*-3.3 P+; PowerWise: N; Published: 4-Dec-2008; DatasheetVersion: Feb-2004; PackageVersion: revA, Oct-1989; PackageReference: T05D; Publisher: Altium Limited; PackageDescription: TO-220, Molded, Stagger Bend, 5 Lead; CompType: Switcher; RoHS: Y; PinCount: 5; DigiKeyPartNumber: LM2587T-3.3-ND; ComponentLink1Description: LM2587 Datasheet; ComponentLink1URL: http://www.national.com/ds/LM/LM2587.pdf; ComponentLink2Description: LM2587 Web Page; ComponentLink2URL: http://www.national.com/pf/LM/LM2587.html; ComponentLink3Description: T05D Package Page; ComponentLink3URL: http://www.national.com/packaging/folders/t05d.html
footprint T05D (TO, Thru-Hole, Vertical, Heatsink Mounted; 5 Bent Staggered Leads; Pitch 1.7 mm)
pins: 1 COMP, 2 FB (in), 3 GND (power), 4 SW (power), 5 VIN (power)

## LM2587T-5.0
designator U?
SIMPLE SWITCHER; 5A Flyback Regulator; PartNumber: LM2587T-5.0; Manufacturer: National Semiconductor; PackageTopMarking: NSUZXYTT*LM2587T*-5.0 P+; PowerWise: N; Published: 4-Dec-2008; DatasheetVersion: Feb-2004; PackageVersion: revA, Oct-1989; PackageReference: T05D; Publisher: Altium Limited; PackageDescription: TO-220, Molded, Stagger Bend, 5 Lead; CompType: Switcher; RoHS: Y; PinCount: 5; DigiKeyPartNumber: LM2587T-5.0-ND; ComponentLink1Description: LM2587 Datasheet; ComponentLink1URL: http://www.national.com/ds/LM/LM2587.pdf; ComponentLink2Description: LM2587 Web Page; ComponentLink2URL: http://www.national.com/pf/LM/LM2587.html; ComponentLink3Description: T05D Package Page; ComponentLink3URL: http://www.national.com/packaging/folders/t05d.html
footprint T05D (TO, Thru-Hole, Vertical, Heatsink Mounted; 5 Bent Staggered Leads; Pitch 1.7 mm)
pins: 1 COMP, 2 FB (in), 3 GND (power), 4 SW (power), 5 VIN (power)

## LM2587T-12
designator U?
SIMPLE SWITCHER; 5A Flyback Regulator; PartNumber: LM2587T-12; Manufacturer: National Semiconductor; PackageTopMarking: NSUZXYTT*LM2587T*-12 P+; PowerWise: N; Published: 4-Dec-2008; DatasheetVersion: Feb-2004; PackageVersion: revA, Oct-1989; PackageReference: T05D; Publisher: Altium Limited; PackageDescription: TO-220, Molded, Stagger Bend, 5 Lead; CompType: Switcher; RoHS: Y; PinCount: 5; DigiKeyPartNumber: LM2587T-12-ND; ComponentLink1Description: LM2587 Datasheet; ComponentLink1URL: http://www.national.com/ds/LM/LM2587.pdf; ComponentLink2Description: LM2587 Web Page; ComponentLink2URL: http://www.national.com/pf/LM/LM2587.html; ComponentLink3Description: T05D Package Page; ComponentLink3URL: http://www.national.com/packaging/folders/t05d.html
footprint T05D (TO, Thru-Hole, Vertical, Heatsink Mounted; 5 Bent Staggered Leads; Pitch 1.7 mm)
pins: 1 COMP, 2 FB (in), 3 GND (power), 4 SW (power), 5 VIN (power)

## LM2587T-ADJ
designator U?
SIMPLE SWITCHER; 5A Flyback Regulator; PartNumber: LM2587T-ADJ; Manufacturer: National Semiconductor; PackageTopMarking: NSUZXYTT*LM2587T*-ADJ P+; PowerWise: N; Published: 4-Dec-2008; DatasheetVersion: Feb-2004; PackageVersion: revA, Oct-1989; PackageReference: T05D; Publisher: Altium Limited; PackageDescription: TO-220, Molded, Stagger Bend, 5 Lead; CompType: Switcher; RoHS: O; PinCount: 5; DigiKeyPartNumber: LM2587T-ADJ-ND; ComponentLink1Description: LM2587 Datasheet; ComponentLink1URL: http://www.national.com/ds/LM/LM2587.pdf; ComponentLink2Description: LM2587 Web Page; ComponentLink2URL: http://www.national.com/pf/LM/LM2587.html; ComponentLink3Description: T05D Package Page; ComponentLink3URL: http://www.national.com/packaging/folders/t05d.html
footprint T05D (TO, Thru-Hole, Vertical, Heatsink Mounted; 5 Bent Staggered Leads; Pitch 1.7 mm)
pins: 1 COMP, 2 FB (in), 3 GND (power), 4 SW (power), 5 VIN (power)

## LM2588S-3.3
designator U?
SIMPLE SWITCHER 5A Flyback Regulator with Shutdown; PartNumber: LM2588S-3.3; Manufacturer: National Semiconductor; PackageTopMarking: NSUZXYTT*LM2588S*-3.3 P+; PowerWise: N; Published: 4-Dec-2008; DatasheetVersion: Jul-2005; PackageVersion: revE, Jul-2003; PackageReference: TS7B; Publisher: Altium Limited; PackageDescription: TO-263, Molded, .400 x .390 x .180in Body, 7 Lead, .050in Pitch, Surface Mount; CompType: Switcher; RoHS: Y; PinCount: 7; DigiKeyPartNumber: LM2588S-3.3-ND; Code_JEDEC: MO-169-AC; ComponentLink1Description: LM2588 Datasheet; ComponentLink1URL: http://www.national.com/ds/LM/LM2588.pdf; ComponentLink2Description: LM2588 Web Page; ComponentLink2URL: http://www.national.com/pf/LM/LM2588.html; ComponentLink3Description: TS7B Package Page; ComponentLink3URL: http://www.national.com/packaging/folders/ts7b.html
footprint TS7B_N (D2-PAK, 8-Leads, Body 8.6x10.2mm, Pitch 1.27mm, Lead Span 14.1mm, IPC Medium Density)
footprint TS7B_L (D2-PAK, 8-Leads, Body 8.6x10.2mm, Pitch 1.27mm, Lead Span 14.1mm, IPC High Density)
footprint TS7B_M (D2-PAK, 8-Leads, Body 8.6x10.2mm, Pitch 1.27mm, Lead Span 14.1mm, IPC Low Density)
footprint TS7B_M (D2-PAK, 8-Leads, Body 8.6x10.2mm, Pitch 1.27mm, Lead Span 14.1mm, IPC Low Density)
pins: 1 FREQ ADJ/~{ON}/OFF (in), 2 COMP, 3 FB (in), 4 GND (power), 5 SW (power), 6 FREQ SYNC, 7 VIN (power), 8 TAB

## LM2588S-5.0
designator U?
SIMPLE SWITCHER 5A Flyback Regulator with Shutdown; PartNumber: LM2588S-5.0; Manufacturer: National Semiconductor; PackageTopMarking: NSUZXYTT*LM2588S*-5.0 P+; PowerWise: N; Published: 4-Dec-2008; DatasheetVersion: Jul-2005; PackageVersion: revE, Jul-2003; PackageReference: TS7B; Publisher: Altium Limited; PackageDescription: TO-263, Molded, .400 x .390 x .180in Body, 7 Lead, .050in Pitch, Surface Mount; CompType: Switcher; RoHS: Y; PinCount: 7; DigiKeyPartNumber: LM2588S-5.0-ND; Code_JEDEC: MO-169-AC; ComponentLink1Description: LM2588 Datasheet; ComponentLink1URL: http://www.national.com/ds/LM/LM2588.pdf; ComponentLink2Description: LM2588 Web Page; ComponentLink2URL: http://www.national.com/pf/LM/LM2588.html; ComponentLink3Description: TS7B Package Page; ComponentLink3URL: http://www.national.com/packaging/folders/ts7b.html
footprint TS7B_N (D2-PAK, 8-Leads, Body 8.6x10.2mm, Pitch 1.27mm, Lead Span 14.1mm, IPC Medium Density)
footprint TS7B_L (D2-PAK, 8-Leads, Body 8.6x10.2mm, Pitch 1.27mm, Lead Span 14.1mm, IPC High Density)
footprint TS7B_M (D2-PAK, 8-Leads, Body 8.6x10.2mm, Pitch 1.27mm, Lead Span 14.1mm, IPC Low Density)
footprint TS7B_M (D2-PAK, 8-Leads, Body 8.6x10.2mm, Pitch 1.27mm, Lead Span 14.1mm, IPC Low Density)
pins: 1 FREQ ADJ/~{ON}/OFF (in), 2 COMP, 3 FB (in), 4 GND (power), 5 SW (power), 6 FREQ SYNC, 7 VIN (power), 8 TAB

## LM2588S-12
designator U?
SIMPLE SWITCHER 5A Flyback Regulator with Shutdown; PartNumber: LM2588S-12; Manufacturer: National Semiconductor; PackageTopMarking: NSUZXYTT*LM2588S*-12 P+; PowerWise: N; Published: 4-Dec-2008; DatasheetVersion: Jul-2005; PackageVersion: revE, Jul-2003; PackageReference: TS7B; Publisher: Altium Limited; PackageDescription: TO-263, Molded, .400 x .390 x .180in Body, 7 Lead, .050in Pitch, Surface Mount; CompType: Switcher; RoHS: Y; PinCount: 7; DigiKeyPartNumber: LM2588S-12-ND; Code_JEDEC: MO-169-AC; ComponentLink1Description: LM2588 Datasheet; ComponentLink1URL: http://www.national.com/ds/LM/LM2588.pdf; ComponentLink2Description: LM2588 Web Page; ComponentLink2URL: http://www.national.com/pf/LM/LM2588.html; ComponentLink3Description: TS7B Package Page; ComponentLink3URL: http://www.national.com/packaging/folders/ts7b.html
footprint TS7B_N (D2-PAK, 8-Leads, Body 8.6x10.2mm, Pitch 1.27mm, Lead Span 14.1mm, IPC Medium Density)
footprint TS7B_L (D2-PAK, 8-Leads, Body 8.6x10.2mm, Pitch 1.27mm, Lead Span 14.1mm, IPC High Density)
footprint TS7B_M (D2-PAK, 8-Leads, Body 8.6x10.2mm, Pitch 1.27mm, Lead Span 14.1mm, IPC Low Density)
footprint TS7B_M (D2-PAK, 8-Leads, Body 8.6x10.2mm, Pitch 1.27mm, Lead Span 14.1mm, IPC Low Density)
pins: 1 FREQ ADJ/~{ON}/OFF (in), 2 COMP, 3 FB (in), 4 GND (power), 5 SW (power), 6 FREQ SYNC, 7 VIN (power), 8 TAB

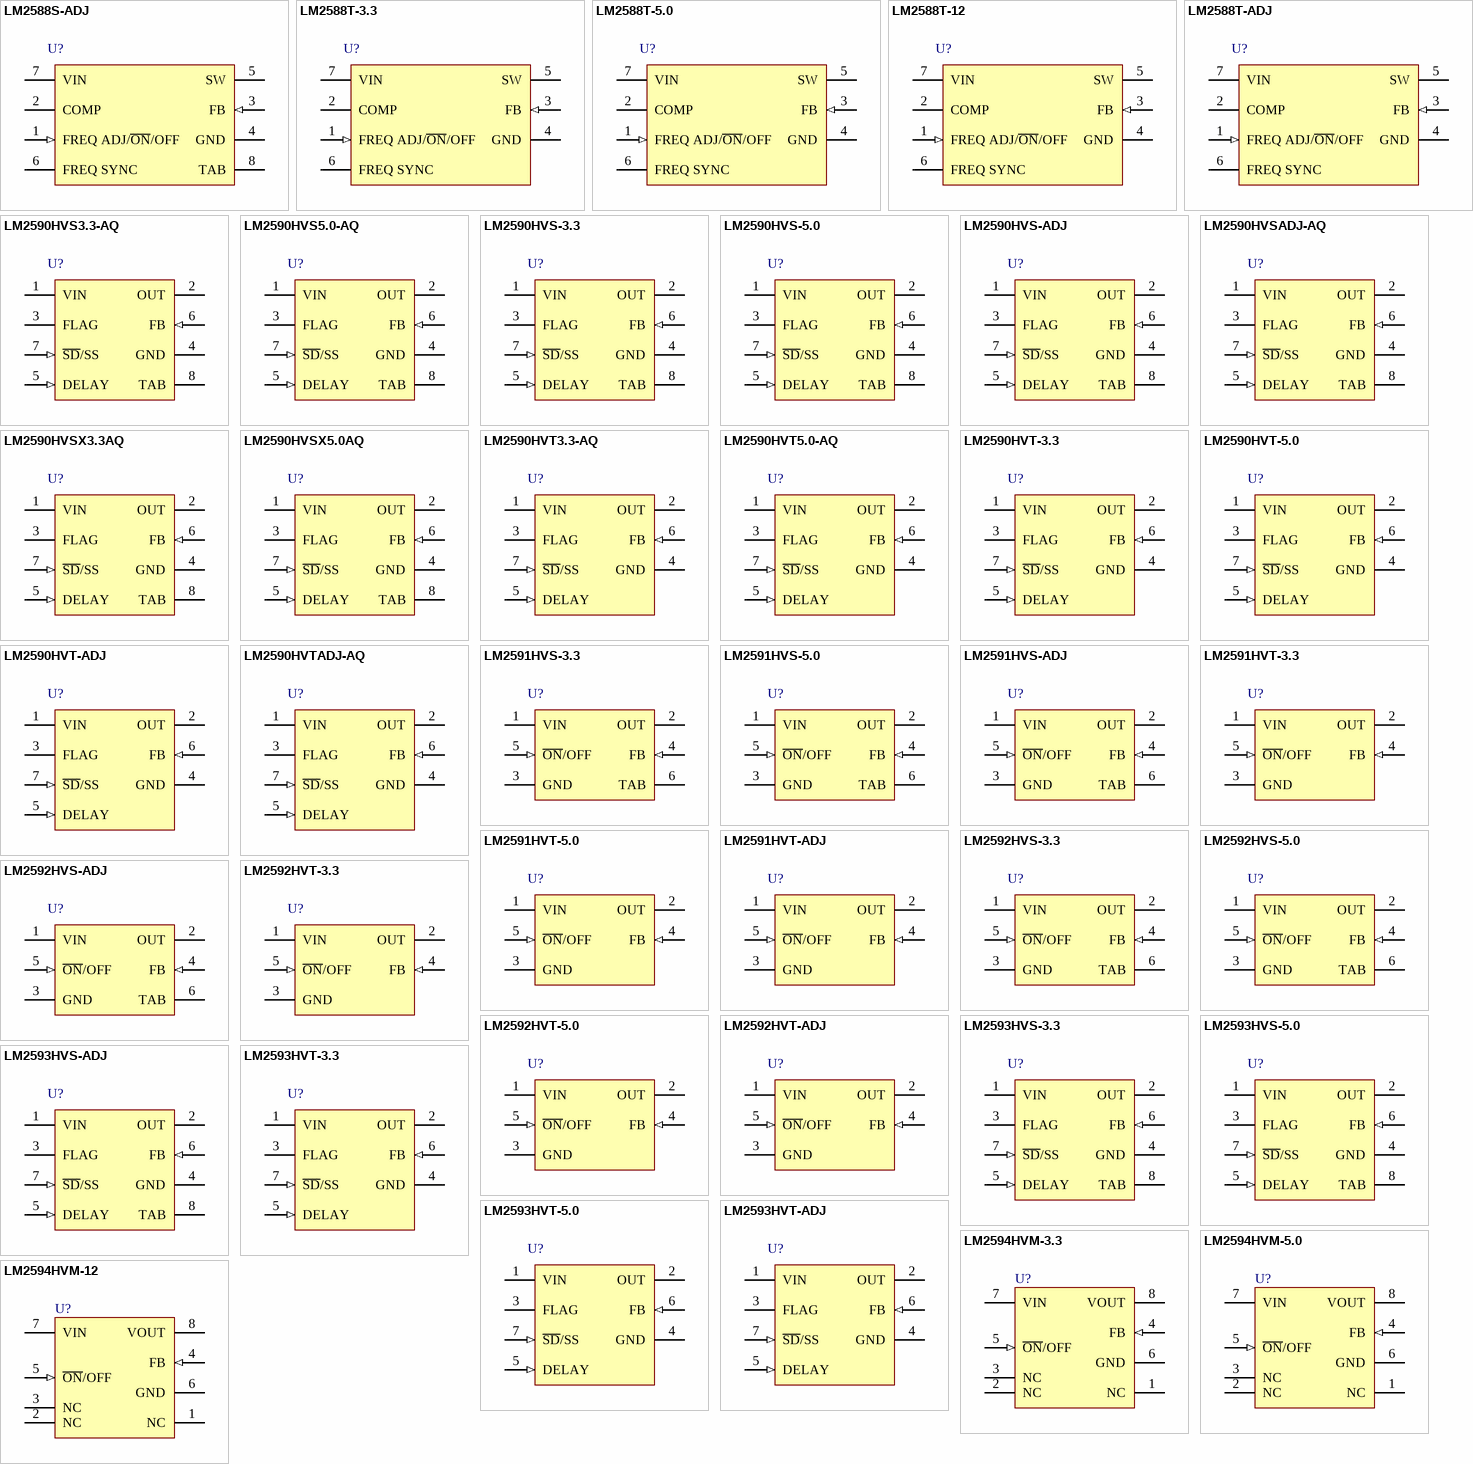
[diagram p3: symbols LM2588S-ADJ to LM2594HVM-12]

## LM2588S-ADJ
designator U?
SIMPLE SWITCHER 5A Flyback Regulator with Shutdown; PartNumber: LM2588S-ADJ; Manufacturer: National Semiconductor; PackageTopMarking: NSUZXYTT*LM2588S*-ADJ P+; PowerWise: N; Published: 4-Dec-2008; DatasheetVersion: Jul-2005; PackageVersion: revE, Jul-2003; PackageReference: TS7B; Publisher: Altium Limited; PackageDescription: TO-263, Molded, .400 x .390 x .180in Body, 7 Lead, .050in Pitch, Surface Mount; CompType: Switcher; RoHS: O; PinCount: 7; DigiKeyPartNumber: LM2588S-ADJ-ND; Code_JEDEC: MO-169-AC; ComponentLink1Description: LM2588 Datasheet; ComponentLink1URL: http://www.national.com/ds/LM/LM2588.pdf; ComponentLink2Description: LM2588 Web Page; ComponentLink2URL: http://www.national.com/pf/LM/LM2588.html; ComponentLink3Description: TS7B Package Page; ComponentLink3URL: http://www.national.com/packaging/folders/ts7b.html
footprint TS7B_N (D2-PAK, 8-Leads, Body 8.6x10.2mm, Pitch 1.27mm, Lead Span 14.1mm, IPC Medium Density)
footprint TS7B_L (D2-PAK, 8-Leads, Body 8.6x10.2mm, Pitch 1.27mm, Lead Span 14.1mm, IPC High Density)
footprint TS7B_M (D2-PAK, 8-Leads, Body 8.6x10.2mm, Pitch 1.27mm, Lead Span 14.1mm, IPC Low Density)
footprint TS7B_M (D2-PAK, 8-Leads, Body 8.6x10.2mm, Pitch 1.27mm, Lead Span 14.1mm, IPC Low Density)
pins: 1 FREQ ADJ/~{ON}/OFF (in), 2 COMP, 3 FB (in), 4 GND (power), 5 SW (power), 6 FREQ SYNC, 7 VIN (power), 8 TAB

## LM2588T-3.3
designator U?
SIMPLE SWITCHER 5A Flyback Regulator with Shutdown; PartNumber: LM2588T-3.3; Manufacturer: National Semiconductor; PackageTopMarking: NSUZXYTT*LM2588T*-3.3 P+; PowerWise: N; Published: 4-Dec-2008; DatasheetVersion: Jul-2005; PackageVersion: revC, Apr-1999; PackageReference: TA07B; Publisher: Altium Limited; PackageDescription: TO-220, Molded, .400 x .590 x .180in Body, 7 Lead, .050in Pitch, Staggered; CompType: Switcher; RoHS: Y; PinCount: 7; DigiKeyPartNumber: LM2588T-3.3-ND; Code_JEDEC: TO-220-AB; ComponentLink1Description: LM2588 Datasheet; ComponentLink1URL: http://www.national.com/ds/LM/LM2588.pdf; ComponentLink2Description: LM2588 Web Page; ComponentLink2URL: http://www.national.com/pf/LM/LM2588.html; ComponentLink3Description: TA07B Package Page; ComponentLink3URL: http://www.national.com/packaging/folders/ta07b.html
footprint TA07B (TO, Thru-Hole, Vertical, Heatsink Mounted; 7 Bent Staggered Leads; Pitch 1.27 mm)
pins: 1 FREQ ADJ/~{ON}/OFF (in), 2 COMP, 3 FB (in), 4 GND (power), 5 SW (power), 6 FREQ SYNC, 7 VIN (power)

## LM2588T-5.0
designator U?
SIMPLE SWITCHER 5A Flyback Regulator with Shutdown; PartNumber: LM2588T-5.0; Manufacturer: National Semiconductor; PackageTopMarking: NSUZXYTT*LM2588T*-5.0 P+; PowerWise: N; Published: 4-Dec-2008; DatasheetVersion: Jul-2005; PackageVersion: revC, Apr-1999; PackageReference: TA07B; Publisher: Altium Limited; PackageDescription: TO-220, Molded, .400 x .590 x .180in Body, 7 Lead, .050in Pitch, Staggered; CompType: Switcher; RoHS: O; PinCount: 7; DigiKeyPartNumber: LM2588T-5.0-ND; Code_JEDEC: TO-220-AB; ComponentLink1Description: LM2588 Datasheet; ComponentLink1URL: http://www.national.com/ds/LM/LM2588.pdf; ComponentLink2Description: LM2588 Web Page; ComponentLink2URL: http://www.national.com/pf/LM/LM2588.html; ComponentLink3Description: TA07B Package Page; ComponentLink3URL: http://www.national.com/packaging/folders/ta07b.html
footprint TA07B (TO, Thru-Hole, Vertical, Heatsink Mounted; 7 Bent Staggered Leads; Pitch 1.27 mm)
pins: 1 FREQ ADJ/~{ON}/OFF (in), 2 COMP, 3 FB (in), 4 GND (power), 5 SW (power), 6 FREQ SYNC, 7 VIN (power)

## LM2588T-12
designator U?
SIMPLE SWITCHER 5A Flyback Regulator with Shutdown; PartNumber: LM2588T-12; Manufacturer: National Semiconductor; PackageTopMarking: NSUZXYTT*LM2588T*-12 P+; Published: 4-Dec-2008; DatasheetVersion: Jul-2005; PackageVersion: revC, Apr-1999; PackageReference: TA07B; Publisher: Altium Limited; PackageDescription: TO-220, Molded, .400 x .590 x .180in Body, 7 Lead, .050in Pitch, Staggered; CompType: Switcher; RoHS: Y; PinCount: 7; DigiKeyPartNumber: LM2588T-12-ND; Code_JEDEC: TO-220-AB; ComponentLink1Description: LM2588 Datasheet; ComponentLink1URL: http://www.national.com/ds/LM/LM2588.pdf; ComponentLink2Description: LM2588 Web Page; ComponentLink2URL: http://www.national.com/pf/LM/LM2588.html; ComponentLink3Description: TA07B Package Page; ComponentLink3URL: http://www.national.com/packaging/folders/ta07b.html
footprint TA07B (TO, Thru-Hole, Vertical, Heatsink Mounted; 7 Bent Staggered Leads; Pitch 1.27 mm)
pins: 1 FREQ ADJ/~{ON}/OFF (in), 2 COMP, 3 FB (in), 4 GND (power), 5 SW (power), 6 FREQ SYNC, 7 VIN (power)

## LM2588T-ADJ
designator U?
SIMPLE SWITCHER 5A Flyback Regulator with Shutdown; PartNumber: LM2588T-ADJ; Manufacturer: National Semiconductor; PackageTopMarking: NSUZXYTT*LM2588T*-ADJ P+; PowerWise: N; Published: 4-Dec-2008; DatasheetVersion: Jul-2005; PackageVersion: revC, Apr-1999; PackageReference: TA07B; Publisher: Altium Limited; PackageDescription: TO-220, Molded, .400 x .590 x .180in Body, 7 Lead, .050in Pitch, Staggered; CompType: Switcher; RoHS: O; PinCount: 7; DigiKeyPartNumber: LM2588T-ADJ-ND; Code_JEDEC: TO-220-AB; ComponentLink1Description: LM2588 Datasheet; ComponentLink1URL: http://www.national.com/ds/LM/LM2588.pdf; ComponentLink2Description: LM2588 Web Page; ComponentLink2URL: http://www.national.com/pf/LM/LM2588.html; ComponentLink3Description: TA07B Package Page; ComponentLink3URL: http://www.national.com/packaging/folders/ta07b.html
footprint TA07B (TO, Thru-Hole, Vertical, Heatsink Mounted; 7 Bent Staggered Leads; Pitch 1.27 mm)
pins: 1 FREQ ADJ/~{ON}/OFF (in), 2 COMP, 3 FB (in), 4 GND (power), 5 SW (power), 6 FREQ SYNC, 7 VIN (power)

## LM2590HVS3.3-AQ
designator U?
SIMPLE SWITCHER Power Converter 150 KHz 1A Step-Down Voltage Regulator with Features; PartNumber: LM2590HVS3.3-AQ; Manufacturer: National Semiconductor; PackageTopMarking: NSUZXYTT*LM2590HVS*3.3-AQP+; Published: 4-Dec-2008; DatasheetVersion: Dec-2001; PackageVersion: revE, Jul-2003; PackageReference: TS7B; Publisher: Altium Limited; PackageDescription: TO-263, Molded, .400 x .390 x .180in Body, 7 Lead, .050in Pitch, Surface Mount; CompType: Switcher; RoHS: N; PinCount: 7; Code_JEDEC: MO-169-AC; ComponentLink1Description: LM2590HV Datasheet; ComponentLink1URL: http://www.national.com/ds/LM/LM2590HV.pdf; ComponentLink2Description: LM2590HV Web Page; ComponentLink2URL: http://www.national.com/pf/LM/LM2590HV.html; ComponentLink3Description: TS7B Package Page; ComponentLink3URL: http://www.national.com/packaging/folders/ts7b.html
footprint TS7B_N (D2-PAK, 8-Leads, Body 8.6x10.2mm, Pitch 1.27mm, Lead Span 14.1mm, IPC Medium Density)
footprint TS7B_L (D2-PAK, 8-Leads, Body 8.6x10.2mm, Pitch 1.27mm, Lead Span 14.1mm, IPC High Density)
footprint TS7B_M (D2-PAK, 8-Leads, Body 8.6x10.2mm, Pitch 1.27mm, Lead Span 14.1mm, IPC Low Density)
footprint TS7B_M (D2-PAK, 8-Leads, Body 8.6x10.2mm, Pitch 1.27mm, Lead Span 14.1mm, IPC Low Density)
pins: 1 VIN (power), 2 OUT (power), 3 FLAG (oc), 4 GND (power), 5 DELAY (in), 6 FB (in), 7 ~{SD}/SS (in), 8 TAB (power)

## LM2590HVS5.0-AQ
designator U?
SIMPLE SWITCHER Power Converter 150 KHz 1A Step-Down Voltage Regulator with Features; PartNumber: LM2590HVS5.0-AQ; Manufacturer: National Semiconductor; PackageTopMarking: NSUZXYTT*LM2590HVS*5.0-AQ P+; Published: 4-Dec-2008; DatasheetVersion: Dec-2001; PackageVersion: revE, Jul-2003; PackageReference: TS7B; Publisher: Altium Limited; PackageDescription: TO-263, Molded, .400 x .390 x .180in Body, 7 Lead, .050in Pitch, Surface Mount; CompType: Switcher; RoHS: N; PinCount: 7; Code_JEDEC: MO-169-AC; ComponentLink1Description: LM2590HV Datasheet; ComponentLink1URL: http://www.national.com/ds/LM/LM2590HV.pdf; ComponentLink2Description: LM2590HV Web Page; ComponentLink2URL: http://www.national.com/pf/LM/LM2590HV.html; ComponentLink3Description: TS7B Package Page; ComponentLink3URL: http://www.national.com/packaging/folders/ts7b.html
footprint TS7B_N (D2-PAK, 8-Leads, Body 8.6x10.2mm, Pitch 1.27mm, Lead Span 14.1mm, IPC Medium Density)
footprint TS7B_L (D2-PAK, 8-Leads, Body 8.6x10.2mm, Pitch 1.27mm, Lead Span 14.1mm, IPC High Density)
footprint TS7B_M (D2-PAK, 8-Leads, Body 8.6x10.2mm, Pitch 1.27mm, Lead Span 14.1mm, IPC Low Density)
footprint TS7B_M (D2-PAK, 8-Leads, Body 8.6x10.2mm, Pitch 1.27mm, Lead Span 14.1mm, IPC Low Density)
pins: 1 VIN (power), 2 OUT (power), 3 FLAG (oc), 4 GND (power), 5 DELAY (in), 6 FB (in), 7 ~{SD}/SS (in), 8 TAB (power)

## LM2590HVS-3.3
designator U?
SIMPLE SWITCHER Power Converter 150 KHz 1A Step-Down Voltage Regulator with Features; PartNumber: LM2590HVS-3.3; Manufacturer: National Semiconductor; PackageTopMarking: NSUZXYTT*LM2590HVS*-3.3 P+; PowerWise: N; Published: 4-Dec-2008; DatasheetVersion: Dec-2001; PackageVersion: revE, Jul-2003; PackageReference: TS7B; Publisher: Altium Limited; PackageDescription: TO-263, Molded, .400 x .390 x .180in Body, 7 Lead, .050in Pitch, Surface Mount; CompType: Switcher; RoHS: O; PinCount: 7; DigiKeyPartNumber: LM2590HVS-3.3-ND; Code_JEDEC: MO-169-AC; ComponentLink1Description: LM2590HV Datasheet; ComponentLink1URL: http://www.national.com/ds/LM/LM2590HV.pdf; ComponentLink2Description: LM2590HV Web Page; ComponentLink2URL: http://www.national.com/pf/LM/LM2590HV.html; ComponentLink3Description: TS7B Package Page; ComponentLink3URL: http://www.national.com/packaging/folders/ts7b.html
footprint TS7B_N (D2-PAK, 8-Leads, Body 8.6x10.2mm, Pitch 1.27mm, Lead Span 14.1mm, IPC Medium Density)
footprint TS7B_L (D2-PAK, 8-Leads, Body 8.6x10.2mm, Pitch 1.27mm, Lead Span 14.1mm, IPC High Density)
footprint TS7B_M (D2-PAK, 8-Leads, Body 8.6x10.2mm, Pitch 1.27mm, Lead Span 14.1mm, IPC Low Density)
footprint TS7B_M (D2-PAK, 8-Leads, Body 8.6x10.2mm, Pitch 1.27mm, Lead Span 14.1mm, IPC Low Density)
pins: 1 VIN (power), 2 OUT (power), 3 FLAG (oc), 4 GND (power), 5 DELAY (in), 6 FB (in), 7 ~{SD}/SS (in), 8 TAB (power)

## LM2590HVS-5.0
designator U?
SIMPLE SWITCHER Power Converter 150 KHz 1A Step-Down Voltage Regulator with Features; PartNumber: LM2590HVS-5.0; Manufacturer: National Semiconductor; PackageTopMarking: NSUZXYTT*LM2590HVS*-5.0 P+; PowerWise: N; Published: 4-Dec-2008; DatasheetVersion: Dec-2001; PackageVersion: revE, Jul-2003; PackageReference: TS7B; Publisher: Altium Limited; PackageDescription: TO-263, Molded, .400 x .390 x .180in Body, 7 Lead, .050in Pitch, Surface Mount; CompType: Switcher; RoHS: O; PinCount: 7; DigiKeyPartNumber: LM2590HVS-5.0-ND; Code_JEDEC: MO-169-AC; ComponentLink1Description: LM2590HV Datasheet; ComponentLink1URL: http://www.national.com/ds/LM/LM2590HV.pdf; ComponentLink2Description: LM2590HV Web Page; ComponentLink2URL: http://www.national.com/pf/LM/LM2590HV.html; ComponentLink3Description: TS7B Package Page; ComponentLink3URL: http://www.national.com/packaging/folders/ts7b.html
footprint TS7B_N (D2-PAK, 8-Leads, Body 8.6x10.2mm, Pitch 1.27mm, Lead Span 14.1mm, IPC Medium Density)
footprint TS7B_L (D2-PAK, 8-Leads, Body 8.6x10.2mm, Pitch 1.27mm, Lead Span 14.1mm, IPC High Density)
footprint TS7B_M (D2-PAK, 8-Leads, Body 8.6x10.2mm, Pitch 1.27mm, Lead Span 14.1mm, IPC Low Density)
footprint TS7B_M (D2-PAK, 8-Leads, Body 8.6x10.2mm, Pitch 1.27mm, Lead Span 14.1mm, IPC Low Density)
pins: 1 VIN (power), 2 OUT (power), 3 FLAG (oc), 4 GND (power), 5 DELAY (in), 6 FB (in), 7 ~{SD}/SS (in), 8 TAB (power)